# EAGLE library part S8B-PH-SM4-TB (library untitled)
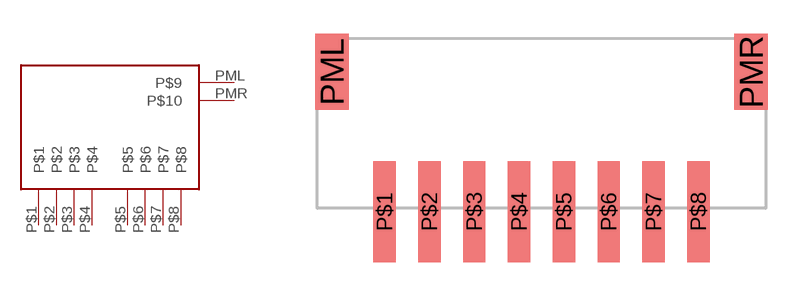
[diagram p26: symbol with the pads of S8B-PH-SM4-TB; footprint S8B-PH-SM4-TB]

Designator prefix -

## S8B-PH-SM4-TB  [S8B-PH-SM4-TB]
P$1  P$1
P$2  P$2
P$3  P$3
P$4  P$4
P$5  P$5
P$6  P$6
P$7  P$7
P$8  P$8
PML  P$9
PMR  P$10

## Footprint S8B-PH-SM4-TB (pad centres in mm)
smd 1 x 4.5: P$1 -7,-7.75; P$2 -5,-7.75; P$3 -3,-7.75; P$4 -1,-7.75; P$5 1,-7.75; P$6 3,-7.75; P$7 5,-7.75; P$8 7,-7.75
smd 1.5 x 3.4: PML -9.35,-1.5; PMR 9.35,-1.5